# EAGLE library part 6X6 (library radiotubes)
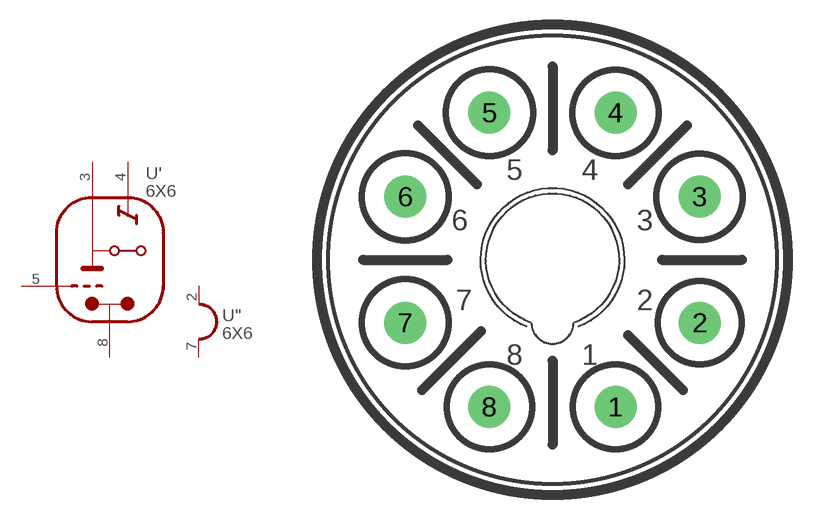
[diagram p145: symbol with the pads of OKTAL; footprint OKTAL]

Designator prefix -; gates '=ABSTIMM1 "=HEATER_1

## 6X6  [OKTAL]
2  ":H1  pas
3  ':A  pas
4  ':L  pas
5  ':GT  pas
7  ":H2  pas
8  ':K  pas

## Footprint OKTAL (pad centres in mm)
drill 1.27 pad 2.54: 1 3.81,-8.89; 2 8.89,-3.81; 3 8.89,3.81; 4 3.81,8.89; 5 -3.81,8.89; 6 -8.89,3.81; 7 -8.89,-3.81; 8 -3.81,-8.89